# Altium schematic symbol library SIMPLIA_LIB.SchLib: 9 symbols
Pins are listed as number, name and electrical type; pins without a type are passive.

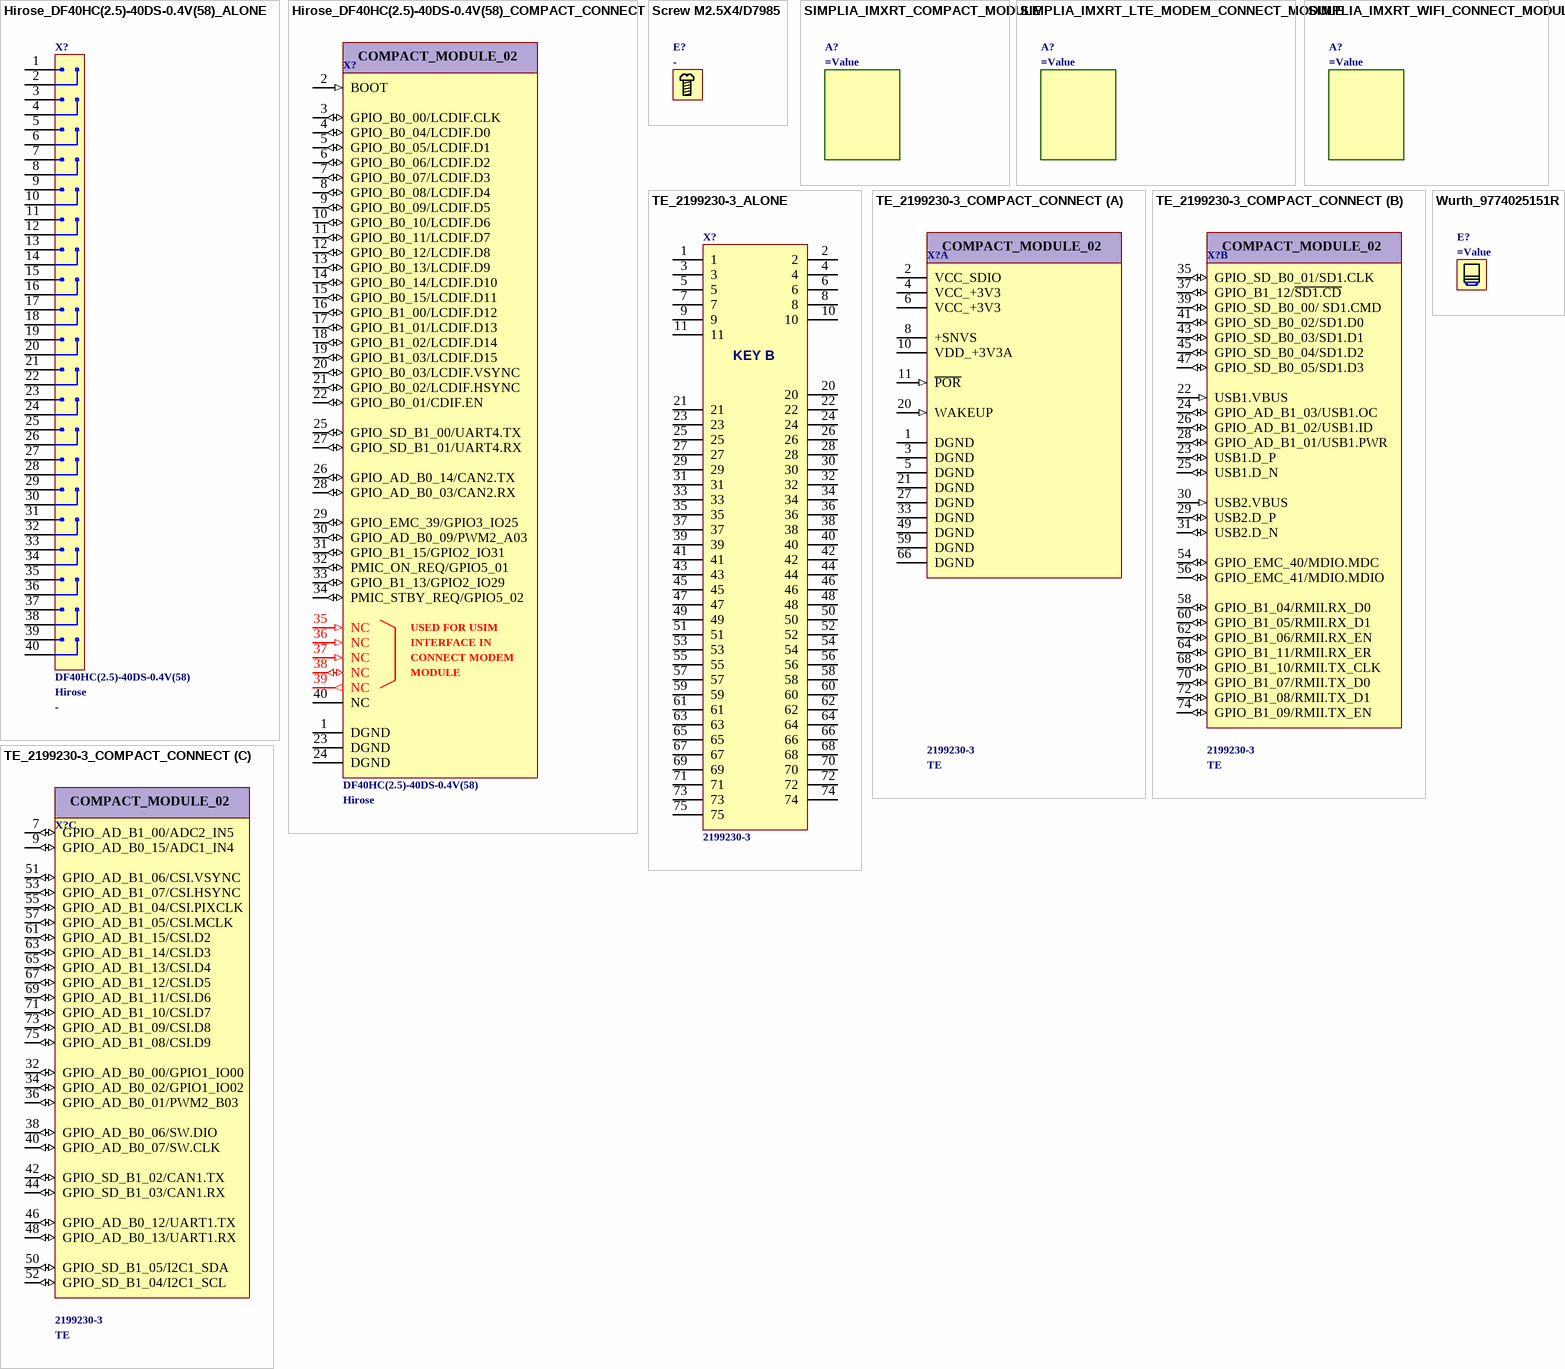
[diagram p0: symbols Hirose_DF40HC(2.5)-40DS-0.4V(58)_ALONE to Wurth_9774025151R]

## Hirose_DF40HC(2.5)-40DS-0.4V(58)_ALONE
designator X?, comment -  Referencia: DF40HC(2.5)-40DS-0.4V(58)  Fabricante: Hirose
CONN RCPT 40POS SMD GOLD; Ref. Catalogo: (D) H124601CT-ND; Montaje: -; Serigrafia: -; ComponentLink1Description: Drawings; ComponentLink1URL: https://www.hirose.com/product/document?clcode=CL0684-4003-3-51&productname=DF40C-60DP-0.4V(51)&series=DF40&documenttype=Catalog&lang=en&documentid=D31649_en
footprint Hirose_DF40HC(2.5)-40DS-0.4V(58) (CONN RCPT 40POS 0.4MM SMD GOLD)
pins: 1, 2, 3, 4, 5, 6, 7, 8, 9, 10, 11, 12, 13, 14, 15, 16, 17, 18, 19, 20, 21, 22, 23, 24, 25, 26, 27, 28, 29, 30, 31, 32, 33, 34, 35, 36, 37, 38, 39, 40

## Hirose_DF40HC(2.5)-40DS-0.4V(58)_COMPACT_CONNECT
designator X?, comment Referencia: DF40HC(2.5)-40DS-0.4V(58)  Fabricante: Hirose  (hidden comment: -)
CONN RCPT 40POS SMD GOLD; Ref. Catalogo: (D) H124601CT-ND; Montaje: -; Serigrafia: -; ComponentLink1Description: Drawings; ComponentLink1URL: https://www.hirose.com/product/document?clcode=CL0684-4003-3-51&productname=DF40C-60DP-0.4V(51)&series=DF40&documenttype=Catalog&lang=en&documentid=D31649_en
footprint Hirose_DF40HC(2.5)-40DS-0.4V(58) (CONN RCPT 40POS 0.4MM SMD GOLD)
pins: 1 DGND, 2 BOOT (in), 3 GPIO_B0_00/LCDIF.CLK (io), 4 GPIO_B0_04/LCDIF.D0 (io), 5 GPIO_B0_05/LCDIF.D1 (io), 6 GPIO_B0_06/LCDIF.D2 (io), 7 GPIO_B0_07/LCDIF.D3 (io), 8 GPIO_B0_08/LCDIF.D4 (io), 9 GPIO_B0_09/LCDIF.D5 (io), 10 GPIO_B0_10/LCDIF.D6 (io), 11 GPIO_B0_11/LCDIF.D7 (io), 12 GPIO_B0_12/LCDIF.D8 (io), 13 GPIO_B0_13/LCDIF.D9 (io), 14 GPIO_B0_14/LCDIF.D10 (io), 15 GPIO_B0_15/LCDIF.D11 (io), 16 GPIO_B1_00/LCDIF.D12 (io), 17 GPIO_B1_01/LCDIF.D13 (io), 18 GPIO_B1_02/LCDIF.D14 (io), 19 GPIO_B1_03/LCDIF.D15 (io), 20 GPIO_B0_03/LCDIF.VSYNC (io), 21 GPIO_B0_02/LCDIF.HSYNC (io), 22 GPIO_B0_01/CDIF.EN (io), 23 DGND, 24 DGND, 25 GPIO_SD_B1_00/UART4.TX (io), 26 GPIO_AD_B0_14/CAN2.TX (io), 27 GPIO_SD_B1_01/UART4.RX (io), 28 GPIO_AD_B0_03/CAN2.RX (io), 29 GPIO_EMC_39/GPIO3_IO25 (io), 30 GPIO_AD_B0_09/PWM2_A03 (io), 31 GPIO_B1_15/GPIO2_IO31 (io), 32 PMIC_ON_REQ/GPIO5_01 (io), 33 GPIO_B1_13/GPIO2_IO29 (io), 34 PMIC_STBY_REQ/GPIO5_02 (io), 35 NC (in), 36 NC (in), 37 NC (in), 38 NC (io), 39 NC (out), 40 NC
2 alternate drawings of the same symbol
text: COMPACT_MODULE_02; USED FOR USIM; INTERFACE IN; CONNECT MODEM; MODULE

## Screw M2.5X4/D7985
designator E?, comment -  (mechanical)
SCREW M2.5X4/D7985; Fabricante: KRAFTBERG; Ref. Catalogo: (TME) M2.5X4/D7985; Referencia: M2.5X4/D7985; Serigrafia: -; Montaje: -; ComponentLink1Description: Drawings; ComponentLink1URL: https://www.tme.eu/Document/ab588533144a03f6979d9a793e7b0aed/DIN%207985_H.pdf

## SIMPLIA_IMXRT_COMPACT_MODULE
designator A?
IMXRT 1052 MODULE, 16MB SDRAM, 16MB QSPI, M.2 22x30mm; Fabricante: Simplia; Referencia: -; Ref. Catalogo: -; Montaje: -
footprint COMPACT_MODULE (M.2 22x30mm COMPACT MODULE)

## SIMPLIA_IMXRT_LTE_MODEM_CONNECT_MODULE
designator A?
IMXRT 1052 MODULE, 16MB SDRAM, 16MB QSPI, M.2 30x30mm + QUECTEL LTE BG77 CAT M1/NB2 MODULE; Fabricante: Simplia; Referencia: -; Ref. Catalogo: -; Montaje: -
footprint MODEM_CONNECT_MODULE (M.2 30x30mm MODEM MODULE)

## SIMPLIA_IMXRT_WIFI_CONNECT_MODULE
designator A?
IMXRT 1052 MODULE, 16MB SDRAM, 16MB QSPI, M.2 26x30mm + AZUREWAVE AW-NM191NF,IEEE 802.11 b/g/n WIRELESS LAN MODULE; Fabricante: Simplia; Referencia: -; Ref. Catalogo: -; Montaje: -
footprint WIFI_CONNECT_MODULE (M.2 26x30mm WIFI MODULE)

## TE_2199230-3_ALONE
designator X?, comment 2199230-3
CONN M.2 KEY B FMALE 67POS 0.5PITCH 4.2mm HEIGHT; Ref. Catalogo: (D) A115903CT-ND; Fabricante: TE; Montaje: -; Serigrafia: -; Referencia: 2199230-3; ComponentLink1Description: Drawings; ComponentLink1URL: https://www.te.com/commerce/DocumentDelivery/DDEController?Action=srchrtrv&DocNm=2199230&DocType=Customer+Drawing&DocLang=English
footprint TE_2199230-3 (M.2 .5PITCH 4.2H KEY B)
pins: 1, 2, 3, 4, 5, 6, 7, 8, 9, 10, 11, 20, 21, 22, 23, 24, 25, 26, 27, 28, 29, 30, 31, 32, 33, 34, 35, 36, 37, 38, 39, 40, 41, 42, 43, 44, 45, 46, 47, 48, 49, 50, 51, 52, 53, 54, 55, 56, 57, 58, 59, 60, 61, 62, 63, 64, 65, 66, 67, 68, 69, 70, 71, 72, 73, 74, 75
text: KEY B

## TE_2199230-3_COMPACT_CONNECT
designator X?, comment Fabricante: TE  Referencia: 2199230-3  (hidden comment: -)
CONN M.2 KEY B FMALE 67POS 0.5PITCH 4.2mm HEIGHT; Ref. Catalogo: (D) A115903CT-ND; Montaje: -; Serigrafia: -; ComponentLink1Description: Drawings; ComponentLink1URL: https://www.te.com/commerce/DocumentDelivery/DDEController?Action=srchrtrv&DocNm=2199230&DocType=Customer+Drawing&DocLang=English
footprint TE_2199230-3 (M.2 .5PITCH 4.2H KEY B)
part A pins: 1 DGND (power), 2 VCC_SDIO (power), 3 DGND (power), 4 VCC_+3V3 (power), 5 DGND (power), 6 VCC_+3V3 (power), 8 +SNVS (power), 10 VDD_+3V3A (power), 11 ~{POR} (in), 20 WAKEUP (in), 21 DGND (power), 27 DGND (power), 33 DGND (power), 49 DGND (power), 59 DGND (power), 66 DGND
part B pins: 22 USB1.VBUS (in), 23 USB1.D_P (io), 24 GPIO_AD_B1_03/USB1.OC (io), 25 USB1.D_N (io), 26 GPIO_AD_B1_02/USB1.ID (io), 28 GPIO_AD_B1_01/USB1.PWR (io), 29 USB2.D_P (io), 30 USB2.VBUS (in), 31 USB2.D_N (io), 35 GPIO_SD_B0_01/SD1.CLK (io), 37 GPIO_B1_12/~{SD1.CD} (io), 39 GPIO_SD_B0_00/ SD1.CMD (io), 41 GPIO_SD_B0_02/SD1.D0 (io), 43 GPIO_SD_B0_03/SD1.D1 (io), 45 GPIO_SD_B0_04/SD1.D2 (io), 47 GPIO_SD_B0_05/SD1.D3 (io), 54 GPIO_EMC_40/MDIO.MDC (io), 56 GPIO_EMC_41/MDIO.MDIO (io), 58 GPIO_B1_04/RMII.RX_D0 (io), 60 GPIO_B1_05/RMII.RX_D1 (io), 62 GPIO_B1_06/RMII.RX_EN (io), 64 GPIO_B1_11/RMII.RX_ER (io), 68 GPIO_B1_10/RMII.TX_CLK (io), 70 GPIO_B1_07/RMII.TX_D0 (io), 72 GPIO_B1_08/RMII.TX_D1 (io), 74 GPIO_B1_09/RMII.TX_EN (io)
part C pins: 7 GPIO_AD_B1_00/ADC2_IN5 (io), 9 GPIO_AD_B0_15/ADC1_IN4 (io), 32 GPIO_AD_B0_00/GPIO1_IO00 (io), 34 GPIO_AD_B0_02/GPIO1_IO02 (io), 36 GPIO_AD_B0_01/PWM2_B03 (io), 38 GPIO_AD_B0_06/SW.DIO (io), 40 GPIO_AD_B0_07/SW.CLK (io), 42 GPIO_SD_B1_02/CAN1.TX (io), 44 GPIO_SD_B1_03/CAN1.RX (io), 46 GPIO_AD_B0_12/UART1.TX (io), 48 GPIO_AD_B0_13/UART1.RX (io), 50 GPIO_SD_B1_05/I2C1_SDA (io), 51 GPIO_AD_B1_06/CSI.VSYNC (io), 52 GPIO_SD_B1_04/I2C1_SCL (io), 53 GPIO_AD_B1_07/CSI.HSYNC (io), 55 GPIO_AD_B1_04/CSI.PIXCLK (io), 57 GPIO_AD_B1_05/CSI.MCLK (io), 61 GPIO_AD_B1_15/CSI.D2 (io), 63 GPIO_AD_B1_14/CSI.D3 (io), 65 GPIO_AD_B1_13/CSI.D4 (io), 67 GPIO_AD_B1_12/CSI.D5 (io), 69 GPIO_AD_B1_11/CSI.D6 (io), 71 GPIO_AD_B1_10/CSI.D7 (io), 73 GPIO_AD_B1_09/CSI.D8 (io), 75 GPIO_AD_B1_08/CSI.D9 (io)
2 alternate drawings of the same symbol
part A text: COMPACT_MODULE_02
part B text: COMPACT_MODULE_02
part C text: COMPACT_MODULE_02

## Wurth_9774025151R
designator E?
RND STANDOFF M2.5X0.45 STEEL 2.5MM; Fabricante: Wurth; Referencia: 9774025151R; Ref. Catalogo: (D) 732-7078-1-ND; Montaje: -; ComponentLink1Description: Datasheet; ComponentLink1URL: https://www.we-online.de/katalog/datasheet/9774025151R.pdf
footprint Wurth_9774025151R (ROUND STANDOFF M2.5 STEEL 2.5MM)